# Altium schematic symbol library 12061A122FAT2A.SchLib: 1 symbol
Pins are listed as number, name and electrical type; pins without a type are passive.

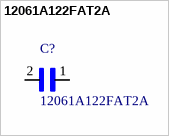
[diagram p0: symbol 12061A122FAT2A]

## 12061A122FAT2A
designator C?
Cap Ceramic 0.0012uF 100V C0G 1% SMD 1206 125Ã‚Â°C Paper T/R; MF: AVX; Package: 1206 AVX; Availability: Unavailable; SnapEDA_Link: https://www.snapeda.com/parts/12061A122FAT2A/AVX/view-part/?ref=snap; MP: 12061A122FAT2A; Price: None; Value: *
footprint *CAPC320160X94
pins: 1, 2